# EAGLE library part 693022010811 (library Wurth_Elektronik_Electromechanic_Input-Output_Connectors_rev16b)
WR-CRD_Micro SIM_Hinge_w Card Stop_SMT Micro SIM Hinge Type SMT - with Card Stop - 1.95mm Height - T&R with Mylar for Pick & Place Con_I-O_COM_CRD_SIM_Micro_693022010811_693022010811 <http://katalog.we-online.de/media/images/eican/Con_I-O_COM_CRD_SIM_Micro_693022010811_pf2.jpg> Details see: http://katalog.we-online.de/en/em/693_022_010_811/693_022_010_811?m Created 2014-12-22, aslant tao 2014 (C) Würth Elektronik
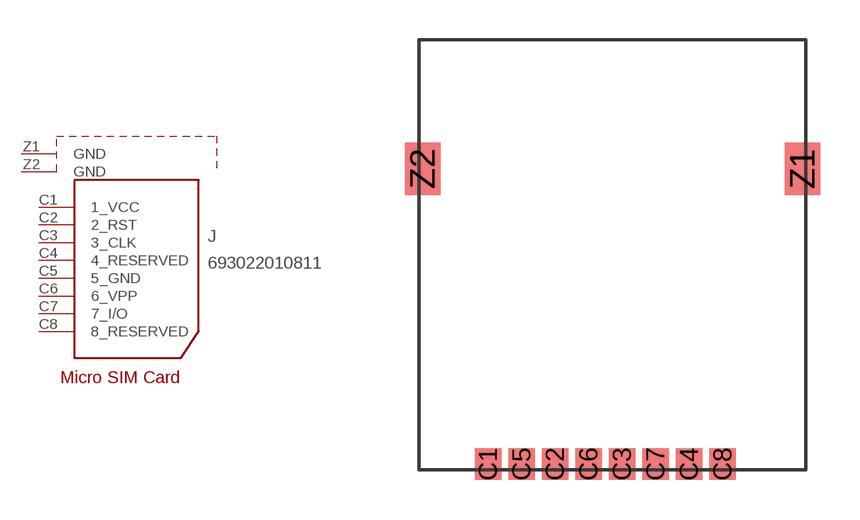
[diagram p149: symbol with the pads of 693022010811; footprint 693022010811]

Designator prefix J

## 693022010811  [693022010811]
C1  1_VCC
C2  2_RST
C3  3_CLK
C4  4_RESERVED
C5  5_GND
C6  6_VPP
C7  7_I/O
C8  8_RESERVED
Z1  GND
Z2  GND

## Footprint 693022010811 (pad centres in mm)
smd 1 x 1.2: C1 -4.72,0; C2 -2.18,0; C3 0.36,0; C4 2.9,0; C5 -3.45,0; C6 -0.91,0; C7 1.63,0; C8 4.17,0
smd 1.35 x 2: Z1 7.2,11.2; Z2 -7.2,11.2